# EAGLE library part BME280_DIP (library BME280)
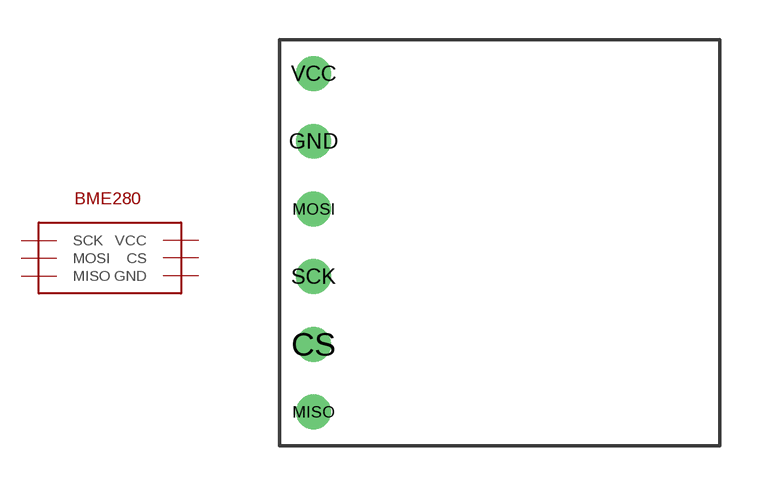
[diagram p1: symbol with the pads of BME280_DIP; footprint BME280_DIP]

Designator prefix -

## BME280_DIP  [BME280_DIP]
CS  CS
GND  GND
MISO  MISO
MOSI  MOSI
SCK  SCK
VCC  VCC

## Footprint BME280_DIP (pad centres in mm)
drill 0.8: CS 0,-3.81; GND 0,3.81; MISO 0,-6.35; MOSI 0,1.27; SCK 0,-1.27; VCC 0,6.35